# Altium schematic symbol library bourns-protection.SchLib: 5 symbols
Pins are listed as number, name and electrical type; pins without a type are passive.

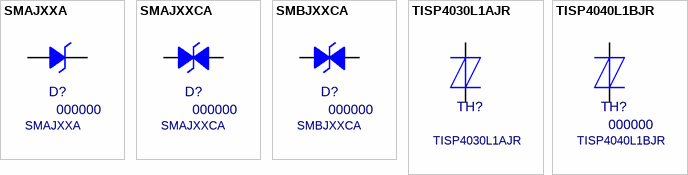
[diagram p0: symbols SMAJXXA to TISP4040L1BJR]

## SMAJXXA
designator D?, comment 000000  value SMAJXXA
Unidirectional Transiet Voltage Suppressor; MF: Bourns; PN: 000000; Package: SMA; ExtraInfo: *
footprint DO-214AC (Molded Diode, 2-Leads, Body 4.3x2.6mm, IPC High Density)
pins: 1 A, 2 K

## SMAJXXCA
designator D?, comment 000000  value SMAJXXCA
Bidirectional Transiet Voltage Suppressor; MF: Bourns; PN: 000000; Package: SMA; ExtraInfo: *
footprint DO-214AC-NP (Molded Diode, 2-Leads, Body 4.3x2.6mm, IPC High Density)
pins: 1 A, 2 K

## SMBJXXCA
designator D?, comment 000000  value SMBJXXCA
Bidirectional Transiet Voltage Suppressor; MF: Bourns; PN: 000000; Package: SMB; ExtraInfo: *
footprint DO-214AA-NP (Molded Diode, 2-Leads, Body 4.3x3.6mm, IPC High Density)
pins: 1 A, 2 K

## TISP4030L1AJR
designator TH?  value TISP4030L1AJR
30V Bidirectional Thyristor Voltage Protector; PN: 000000; MF: Bourns; MF PN: TISP4030L1AJR-S; Package: SMA; ExtraInfo: *; Price: 0.14500; Digi-Key PN: TISP4030L1AJR-SCT-ND
footprint DO-214AC-NP (Molded Diode, 2-Leads, Body 4.3x2.6mm, IPC High Density)
pins: 1 T, 2 R

## TISP4040L1BJR
designator TH?, comment 000000  value TISP4040L1BJR
40V Bidirectional Thyristor Voltage Protector; MF: Bourns; MF PN: TISP4040L1BJR-S; PN: 000000; Package: SMB; ExtraInfo: *; Price: 0.15500; Digi-Key PN: TISP4040L1BJR-SCT-ND
footprint DO-214AA-NP (Molded Diode, 2-Leads, Body 4.3x3.6mm, IPC High Density)
pins: 1 T, 2 R